# Altium footprint library WE-SFIA.PcbLib: 3 footprints
Each footprint in its own frame and in the unit in brackets; x right, y up, seen from the top. Pads: shape width x height; smd on the part's side, far side on the other; paste and mask are expansions set on the pad; w line width, h text height; cw(c..) or ccw(c..) is an arc to the next point about the centre after c.
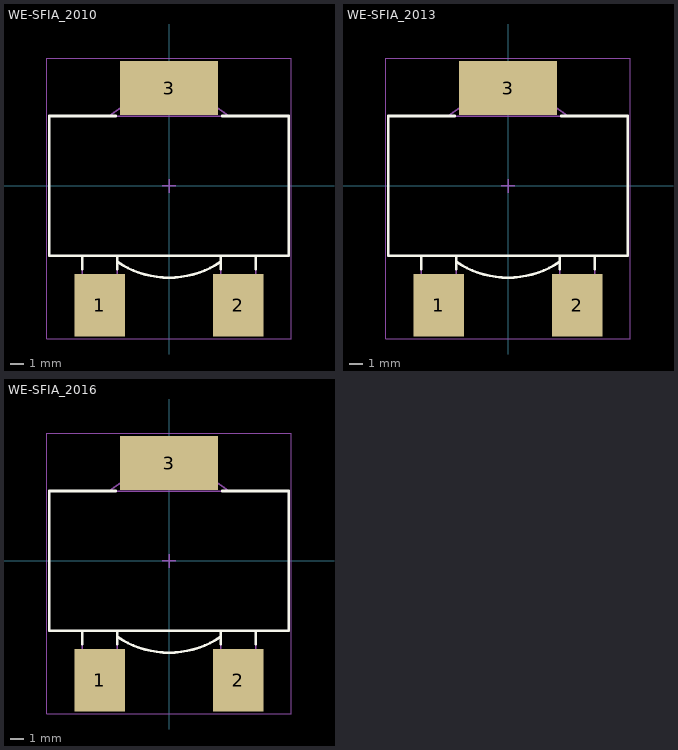
[diagram p0: the footprints below, top view; thin cyan lines are the x and y axes]

## WE-SFIA_2010 [mm]
height 11.1
pads (3):
  rect 3.81x4.7 smd: 1(-5.205,-8.96) 2(5.205,-8.96)
  rect 7.37x4.06 smd: 3(0,7.36)
Top Overlay:
  lines w0.2: -6.525,-6.25 -6.525,-5.25 ; -4,5.25 -9,5.25 -9,-5.25 9,-5.25 9,5.25 4,5.25 ; -3.885,-6.25 -3.885,-5.25 ; -3.875,-5.709 ccw(c0,0) 3.875,-5.709 ; 3.885,-6.25 3.885,-5.25 ; 6.525,-6.25 6.525,-5.25
Top Assembly:
  lines w0.1: -6.525,-5.25 -6.525,-10.95 -3.875,-10.95 -3.875,-5.25 ; -4.477,5.25 cw(c0,0) 4.477,5.25 ; -3.875,-5.709 ccw(c0,0) 3.875,-5.709 ; -1.675,6.694 -1.675,9.15 1.675,9.15 1.675,6.694 ; 3.875,-5.25 3.875,-10.95 6.525,-10.95 6.525,-5.25 ; -9,-5.25 9,-5.25 9,5.25 -9,5.25 -9,-5.25
Top Designator:
  text ".Designator" at -3.647,-0.357 h1
Top 3D Body:
  lines w0.1: -6.525,-5.25 -6.525,-10.95 -3.875,-10.95 -3.875,-5.25 ; -4.477,5.25 cw(c0,0) 4.477,5.25 ; -3.875,-5.709 ccw(c0,0) 3.875,-5.709 ; -1.675,6.694 -1.675,9.15 1.675,9.15 1.675,6.694 ; 3.875,-5.25 3.875,-10.95 6.525,-10.95 6.525,-5.25 ; -9,-5.25 9,-5.25 9,5.25 -9,5.25 -9,-5.25
Top Courtyard:
  lines w0.05: -9.2,-11.51 9.2,-11.51 9.2,9.59 -9.2,9.59 -9.2,-11.51
Top Component Center:
  lines w0.1: -0.5,0 0.5,0 ; 0,-0.5 0,0.5
3D body "784364210033.stp": height 10.7, standoff 0.04, extent -9,-10.954 9,9.15

## WE-SFIA_2013 [mm]
height 14.3
pads (3):
  rect 3.81x4.7 smd: 1(-5.205,-8.96) 2(5.205,-8.96)
  rect 7.37x4.06 smd: 3(0,7.36)
Top Overlay:
  lines w0.2: -6.525,-6.25 -6.525,-5.25 ; -4,5.25 -9,5.25 -9,-5.25 9,-5.25 9,5.25 4,5.25 ; -3.885,-6.25 -3.885,-5.25 ; -3.875,-5.709 ccw(c0,0) 3.875,-5.709 ; 3.885,-6.25 3.885,-5.25 ; 6.525,-6.25 6.525,-5.25
Top Assembly:
  lines w0.1: -6.525,-5.25 -6.525,-10.95 -3.875,-10.95 -3.875,-5.25 ; -4.477,5.25 cw(c0,0) 4.477,5.25 ; -3.875,-5.709 ccw(c0,0) 3.875,-5.709 ; -1.675,6.694 -1.675,9.15 1.675,9.15 1.675,6.694 ; 3.875,-5.25 3.875,-10.95 6.525,-10.95 6.525,-5.25 ; -9,-5.25 -9,5.25 9,5.25 9,-5.25 -9,-5.25
Top Designator:
  text ".Designator" at -3.647,-0.357 h1
Top 3D Body:
  lines w0.1: -6.525,-5.25 -6.525,-10.95 -3.875,-10.95 -3.875,-5.25 ; -4.477,5.25 cw(c0,0) 4.477,5.25 ; -3.875,-5.709 ccw(c0,0) 3.875,-5.709 ; -1.675,6.694 -1.675,9.15 1.675,9.15 1.675,6.694 ; 3.875,-5.25 3.875,-10.95 6.525,-10.95 6.525,-5.25 ; -9,-5.25 -9,5.25 9,5.25 9,-5.25 -9,-5.25
Top Courtyard:
  lines w0.05: -9.2,-11.51 -9.2,9.59 9.2,9.59 9.2,-11.51 -9.2,-11.51
Top Component Center:
  lines w0.1: -0.5,0 0.5,0 ; 0,-0.5 0,0.5
3D body "784364210082.stp": height 13.95, standoff 0.06, extent -9,-11.05 9,9.15

## WE-SFIA_2016 [mm]
height 17.5
pads (3):
  rect 3.81x4.7 smd: 1(-5.205,-8.96) 2(5.205,-8.96)
  rect 7.37x4.06 smd: 3(0,7.36)
Top Overlay:
  lines w0.2: -6.525,-6.25 -6.525,-5.25 ; -4,5.25 -9,5.25 -9,-5.25 9,-5.25 9,5.25 4,5.25 ; -3.885,-6.25 -3.885,-5.25 ; -3.875,-5.709 ccw(c0,0) 3.875,-5.709 ; 3.885,-6.25 3.885,-5.25 ; 6.525,-6.25 6.525,-5.25
Top Assembly:
  lines w0.1: -6.525,-5.25 -6.525,-10.95 -3.875,-10.95 -3.875,-5.25 ; -4.477,5.25 cw(c0,0) 4.477,5.25 ; -3.875,-5.709 ccw(c0,0) 3.875,-5.709 ; -1.675,6.694 -1.675,9.15 1.675,9.15 1.675,6.694 ; 3.875,-5.25 3.875,-10.95 6.525,-10.95 6.525,-5.25 ; -9,-5.25 -9,5.25 9,5.25 9,-5.25 -9,-5.25
Top Designator:
  text ".Designator" at -3.647,-0.357 h1
Top 3D Body:
  lines w0.1: -6.525,-5.25 -6.525,-10.95 -3.875,-10.95 -3.875,-5.25 ; -4.477,5.25 cw(c0,0) 4.477,5.25 ; -3.875,-5.709 ccw(c0,0) 3.875,-5.709 ; -1.675,6.694 -1.675,9.15 1.675,9.15 1.675,6.694 ; 3.875,-5.25 3.875,-10.95 6.525,-10.95 6.525,-5.25 ; -9,-5.25 -9,5.25 9,5.25 9,-5.25 -9,-5.25
Top Courtyard:
  lines w0.05: -9.2,-11.51 -9.2,9.59 9.2,9.59 9.2,-11.51 -9.2,-11.51
Top Component Center:
  lines w0.1: -0.5,0 0.5,0 ; 0,-0.5 0,0.5
3D body "784364210360.stp": height 17.1, standoff 0.02, extent -9,-11.05 9,9.15